# Altium schematic symbol library Schlib1.SchLib: 1 symbol
Pins are listed as number, name and electrical type; pins without a type are passive.

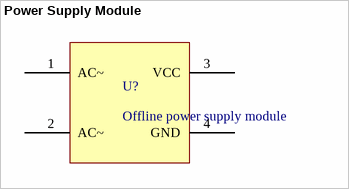
[diagram p0: symbol Power Supply Module]

## Power Supply Module
designator U?, comment Offline power supply module
pins: 1 AC~ (power), 2 AC~ (power), 3 VCC (power), 4 GND (power)